# Altium footprint library DIP - LED Display.PcbLib: 44 footprints (part 1 of 3)
Each footprint in its own frame and in the unit in brackets; x right, y up, seen from the top. Pads: shape width x height; smd on the part's side, far side on the other; paste and mask are expansions set on the pad; w line width, h text height; cw(c..) or ccw(c..) is an arc to the next point about the centre after c.
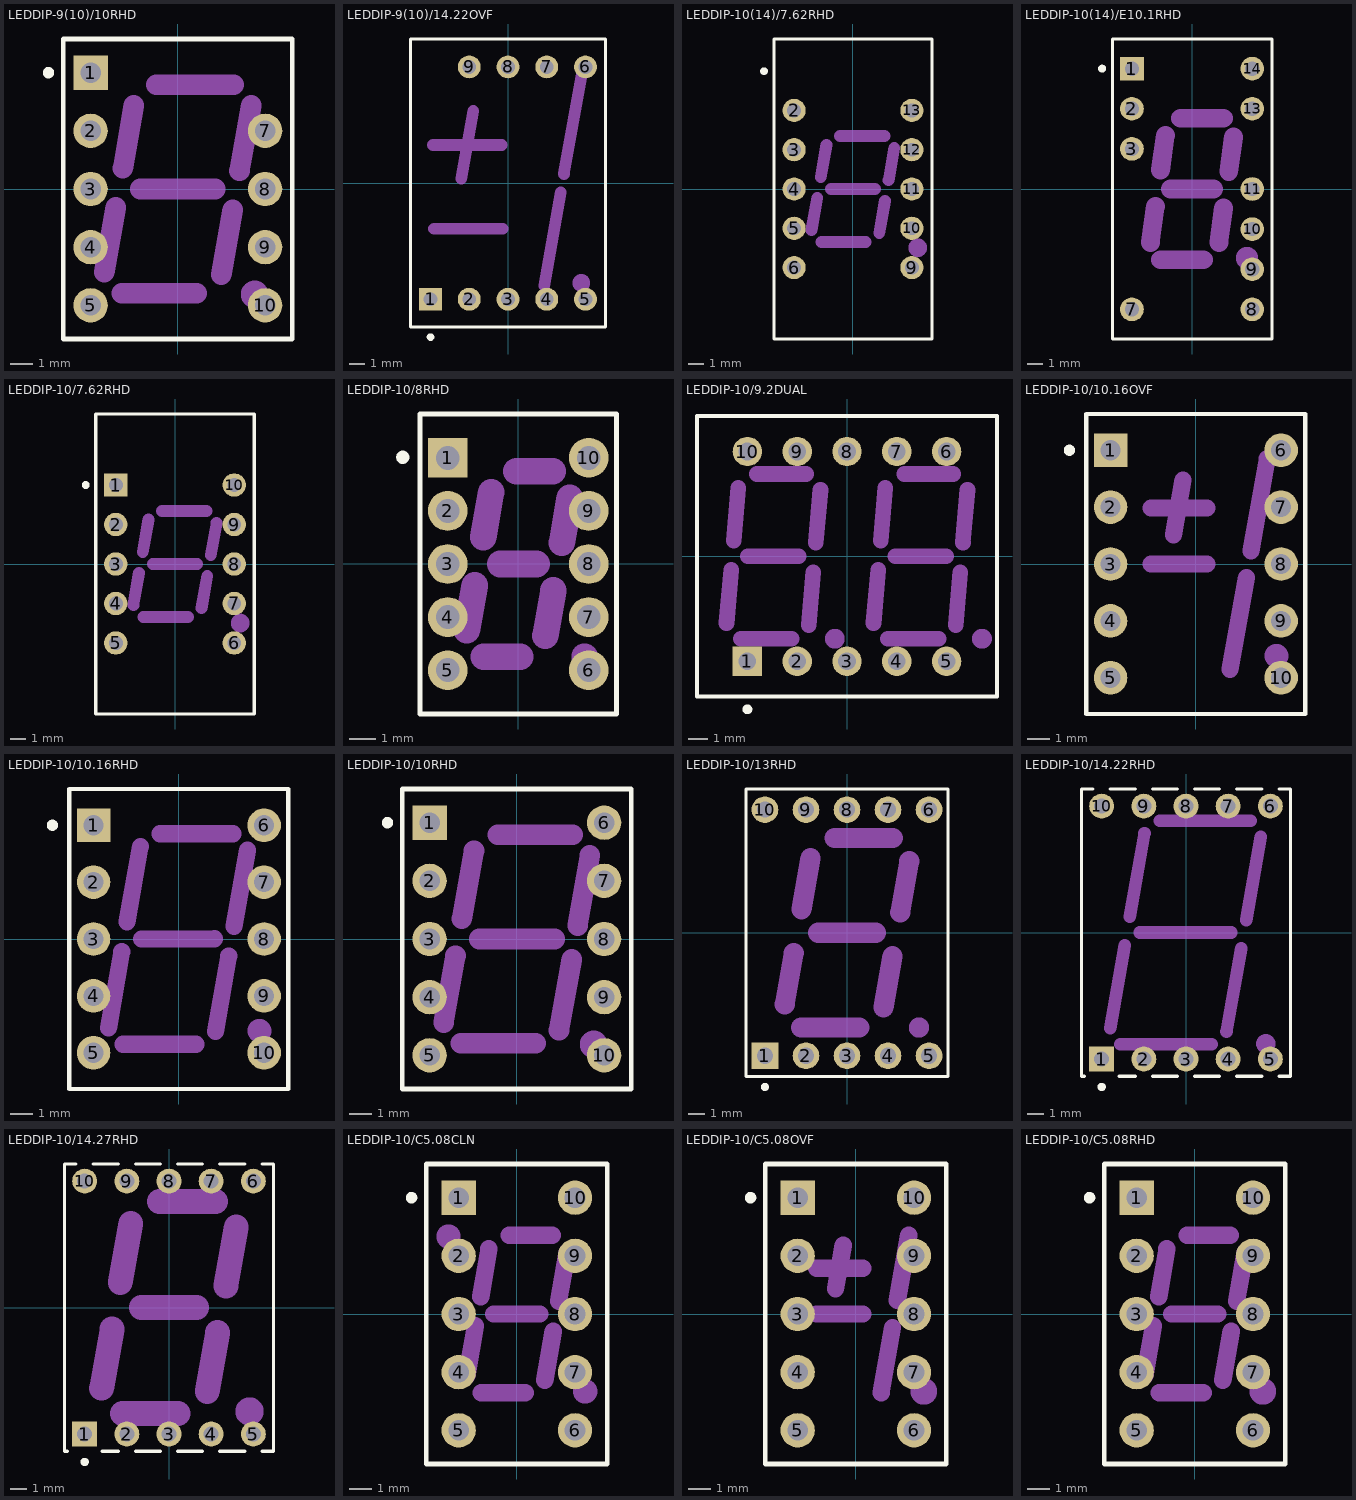
[diagram p0: the footprints below, top view; thin cyan lines are the x and y axes]

## LEDDIP-9(10)/10RHD [mm] "LED, 7-Segment Display, 10 mm, RHD; 10 Leads (1 Absent); Row Space 7.62 mm; Pitch 2.54 mm"
height 7.25
pads (9):
  rect 1.5x1.5 hole 0.9: 1(-3.81,5.08)
  round 1.5 hole 0.9: 2(-3.81,2.54) 3(-3.81,0) 4(-3.81,-2.54) 5(-3.81,-5.08) 7(3.81,2.54) 8(3.81,0) 9(3.81,-2.54) 10(3.81,-5.08)
Top Overlay:
  circle w0.25: c-5.65,5.08 r0.125
  lines w0.2: -5,-6.55 -5,6.55 5,6.55 5,-6.55 -5,-6.55
Mechanical 1:
  circle w0.86: c3.35,-4.6 r0.17
  lines w0.9: -3.21,-3.64 -2.71,-0.8 ; -2.45,-4.55 0.83,-4.55 ; -2.4,0.9 -1.92,3.65 ; -1.65,0 1.63,0 ; -0.95,4.55 2.44,4.55 ; 1.89,-3.75 2.4,-0.9 ; 2.69,0.8 3.2,3.65

## LEDDIP-9(10)/14.22OVF [mm] "LED, Universal ±1 Overflow, 14.22 mm, RHD; 10 Leads (1 Absent); Row Space 15.24 mm; Pitch 2.54 mm"
height 8.25
pads (9):
  rect 1.5x1.5 hole 0.9: 1(-5.08,-7.62)
  round 1.5 hole 0.9: 2(-2.54,-7.62) 3(0,-7.62) 4(2.54,-7.62) 5(5.08,-7.62) 6(5.08,7.62) 7(2.54,7.62) 8(0,7.62) 9(-2.54,7.62)
Top Overlay:
  circle w0.25: c-5.08,-10.1 r0.125
  lines w0.2: -6.4,-9.45 6.4,-9.45 6.4,9.45 -6.4,9.45 -6.4,-9.45
Mechanical 1:
  circle w0.86: c4.81,-6.55 r0.15
  lines w0.762: -4.92,2.5 -0.42,2.5 ; -4.85,-3 -0.35,-3 ; -3.063,0.289 -2.28,4.73 ; 2.38,-6.73 3.46,-0.6 ; 3.67,0.6 4.86,7.31

## LEDDIP-10(14)/7.62RHD [mm] "LED, 7-Segment Display, 7.62 mm, RHD; 14 Leads (4 Absent); Row Space 7.62 mm; Pitch 2.54 mm"
height 6.35
pads (10):
  round 1.5 hole 0.9: 2(-3.81,5.08) 3(-3.81,2.54) 4(-3.81,0) 5(-3.81,-2.54) 6(-3.81,-5.08) 9(3.81,-5.08) 10(3.81,-2.54) 11(3.81,0) 12(3.81,2.54) 13(3.81,5.08)
Top Overlay:
  circle w0.25: c-5.75,7.62 r0.125
  lines w0.2: -5.1,-9.7 5.1,-9.7 5.1,9.7 -5.1,9.7 -5.1,-9.7
Mechanical 1:
  circle w0.86: c4.19,-3.8 r0.17
  lines w0.762: -2.681,-2.652 -2.316,-0.564 ; -2.078,0.763 -1.71,2.857 ; -2.04,-3.419 0.824,-3.419 ; -1.43,0 1.43,0 ; -0.837,3.419 2.029,3.419 ; 1.699,-2.85 2.071,-0.764 ; 2.303,0.565 2.675,2.657

## LEDDIP-10(14)/E10.1RHD [mm] "LED, 7-Segment Display, 10.16 mm, RHD; 14 Leads (4 Absent); Row Space 7.62 mm; Pitch 2.54 mm"
height 5.36
pads (10):
  rect 1.5x1.5 hole 0.9: 1(-3.81,7.62)
  round 1.5 hole 0.9: 2(-3.81,5.08) 3(-3.81,2.54) 7(-3.81,-7.62) 8(3.81,-7.62) 9(3.81,-5.08) 10(3.81,-2.54) 11(3.81,0) 13(3.81,5.08) 14(3.81,7.62)
Top Overlay:
  circle w0.25: c-5.7,7.62 r0.125
  lines w0.2: -5.05,-9.5 5.05,-9.5 5.05,9.5 -5.05,9.5 -5.05,-9.5
Mechanical 1:
  circle w1: c3.47,-4.373 r0.2
  lines w1.2: -2.647,-3.381 -2.328,-1.099 ; -2.002,1.2 -1.696,3.38 ; -1.992,-4.48 0.733,-4.48 ; -1.361,0 1.361,0 ; -0.731,4.48 1.993,4.48 ; 1.69,-3.38 1.99,-1.2 ; 2.32,1.1 2.62,3.28

## LEDDIP-10/7.62RHD [mm] "LED, 7-Segment Display, 7.62 mm, RHD; 10 Leads; Row Space 7.62 mm; Pitch 2.54 mm"
height 6.35
pads (10):
  rect 1.5x1.5 hole 0.9: 1(-3.81,5.08)
  round 1.5 hole 0.9: 2(-3.81,2.54) 3(-3.81,0) 4(-3.81,-2.54) 5(-3.81,-5.08) 6(3.81,-5.08) 7(3.81,-2.54) 8(3.81,0) 9(3.81,2.54) 10(3.81,5.08)
Top Overlay:
  circle w0.25: c-5.75,5.08 r0.125
  lines w0.2: -5.1,-9.65 -5.1,9.65 5.1,9.65 5.1,-9.65 -5.1,-9.65
Mechanical 1:
  circle w0.86: c4.19,-3.8 r0.17
  lines w0.762: -2.681,-2.652 -2.316,-0.564 ; -2.078,0.763 -1.71,2.857 ; -2.04,-3.419 0.824,-3.419 ; -1.43,0 1.43,0 ; -0.837,3.419 2.029,3.419 ; 1.699,-2.85 2.071,-0.764 ; 2.303,0.565 2.675,2.657

## LEDDIP-10/8RHD [mm] "LED, 7-Segment Display, 8 mm, RHD; 10 Leads; Row Space 5.31 mm; Pitch 2.01 mm"
height 5.26
pads (10):
  rect 1.5x1.5 hole 0.9: 1(-2.655,4)
  round 1.5 hole 0.9: 2(-2.655,2) 3(-2.655,0) 4(-2.655,-2) 5(-2.655,-4) 6(2.655,-4) 7(2.655,-2) 8(2.655,0) 9(2.655,2) 10(2.655,4)
Top Overlay:
  circle w0.25: c-4.35,4.02 r0.125
  lines w0.2: -3.7,-5.65 3.7,-5.65 3.7,5.65 -0.635,5.65 -3.7,5.65 -3.7,-5.65
Mechanical 1:
  circle w0.75: c2.5,-3.5 r0.13
  lines w1: -1.939,-2.497 -1.642,-0.801 ; -1.322,1.002 -1.024,2.699 ; -1.302,-3.5 0.066,-3.5 ; -0.685,0 0.686,0 ; -0.067,3.5 1.303,3.5 ; 1.024,-2.699 1.324,-0.999 ; 1.641,0.802 1.938,2.5

## LEDDIP-10/9.2DUAL [mm] "LED, 7-Segment Display, 9.2 mm, Dual Digit; 10 Leads; Row Space 10.7 mm; Pitch 2.54 mm"
height 7.35
pads (10):
  rect 1.5x1.5 hole 0.9: 1(-5.08,-5.35)
  round 1.5 hole 0.9: 2(-2.54,-5.35) 3(0,-5.35) 4(2.54,-5.35) 5(5.08,-5.35) 6(5.08,5.35) 7(2.54,5.35) 8(0,5.35) 9(-2.54,5.35) 10(-5.08,5.35)
Top Overlay:
  circle w0.25: c-5.08,-7.8 r0.125
  lines w0.2: -7.65,-7.15 7.65,-7.15 7.65,7.15 -7.65,7.15 -7.65,-0.635 -7.65,-7.15
Mechanical 1:
  circle w0.75: c6.88,-4.2 r0.13
  circle w0.75: c-0.62,-4.2 r0.13
  lines w0.8: -6.148,-3.402 -5.911,-0.695 ; -5.782,0.801 -5.544,3.496 ; -5.414,-4.2 -2.822,-4.2 ; -5.045,0 -2.455,0 ; -4.587,4.2 -2.086,4.2 ; -1.957,-3.496 -1.72,-0.802 ; -1.588,0.702 -1.353,3.399 ; 1.352,-3.402 1.589,-0.695 ; 1.718,0.801 1.956,3.496 ; 2.086,-4.2 4.678,-4.2 ; 2.455,0 5.045,0 ; 2.913,4.2 5.414,4.2 ; 5.543,-3.496 5.78,-0.802 ; 5.912,0.702 6.147,3.399

## LEDDIP-10/10.16OVF [mm] "LED, Universal ±1 Overflow, 10.16 mm, RHD; 10 Leads; Row Space 7.62 mm; Pitch 2.54 mm"
height 6.34
pads (10):
  rect 1.5x1.5 hole 0.9: 1(-3.81,5.08)
  round 1.5 hole 0.9: 2(-3.81,2.54) 3(-3.81,0) 4(-3.81,-2.54) 5(-3.81,-5.08) 6(3.81,5.08) 7(3.81,2.54) 8(3.81,0) 9(3.81,-2.54) 10(3.81,-5.08)
Top Overlay:
  circle w0.25: c-5.65,5.08 r0.125
  lines w0.2: -4.895,-6.7 -4.895,6.7 4.895,6.7 4.895,-6.7 -4.895,-6.7
Mechanical 1:
  circle w0.86: c3.6,-4.1 r0.1
  lines w0.762: -2,0 0.5,0 ; -2,2.5 0.5,2.5 ; -1,1.3 -0.57,3.76 ; 1.53,-4.7 2.26,-0.6 ; 2.46,0.59 3.19,4.7

## LEDDIP-10/10.16RHD [mm] "LED, 7-Segment Display, 10.16 mm, RHD; 10 Leads; Row Space 7.62 mm; Pitch 2.54 mm"
height 6.34
pads (10):
  rect 1.5x1.5 hole 0.9: 1(-3.81,5.08)
  round 1.5 hole 0.9: 2(-3.81,2.54) 3(-3.81,0) 4(-3.81,-2.54) 5(-3.81,-5.08) 6(3.81,5.08) 7(3.81,2.54) 8(3.81,0) 9(3.81,-2.54) 10(3.81,-5.08)
Top Overlay:
  circle w0.25: c-5.65,5.08 r0.125
  lines w0.2: -4.895,-6.7 4.895,-6.7 4.895,6.7 -4.895,6.7 -4.895,-6.7
Mechanical 1:
  circle w0.86: c3.6,-4.1 r0.1
  lines w0.762: -3.14,-3.98 -2.55,-0.57 ; -2.5,-4.7 0.77,-4.7 ; -2.31,0.77 -1.72,4.13 ; -1.67,0 1.6,0.01 ; -0.84,4.7 2.42,4.7 ; 1.64,-4.13 2.23,-0.75 ; 2.47,0.57 3.07,3.97

## LEDDIP-10/10RHD [mm] "LED, 7-Segment Display, 10 mm, RHD; 10 Leads; Row Space 7.62 mm; Pitch 2.54 mm"
height 7.25
pads (10):
  rect 1.5x1.5 hole 0.9: 1(-3.81,5.08)
  round 1.5 hole 0.9: 2(-3.81,2.54) 3(-3.81,0) 4(-3.81,-2.54) 5(-3.81,-5.08) 6(3.81,5.08) 7(3.81,2.54) 8(3.81,0) 9(3.81,-2.54) 10(3.81,-5.08)
Top Overlay:
  circle w0.25: c-5.65,5.08 r0.125
  lines w0.2: -5,-6.55 5,-6.55 5,6.55 -5,6.55 -5,-6.55
Mechanical 1:
  circle w0.86: c3.35,-4.6 r0.17
  lines w0.9: -3.2,-3.65 -2.68,-0.73 ; -2.44,-4.55 0.83,-4.55 ; -2.4,0.89 -1.87,3.86 ; -1.65,0 1.65,0 ; -0.83,4.55 2.44,4.55 ; 1.84,-3.98 2.39,-0.89 ; 2.65,0.58 3.19,3.66

## LEDDIP-10/13RHD [mm] "LED, 7-Segment Display, 13 mm, RHD; 10 Leads; Row Space 15.24 mm; Pitch 2.54 mm"
height 7.25
pads (10):
  rect 1.65x1.65 hole 1: 1(-5.08,-7.62)
  round 1.65 hole 1: 2(-2.54,-7.62) 3(0,-7.62) 4(2.54,-7.62) 5(5.08,-7.62) 6(5.08,7.62) 7(2.54,7.62) 8(0,7.62) 9(-2.54,7.62) 10(-5.08,7.62)
Top Overlay:
  circle w0.25: c-5.08,-9.55 r0.125
  lines w0.2: -6.25,-8.9 -6.25,8.9 6.25,8.9 6.25,-8.9 -6.25,-8.9
Mechanical 1:
  circle w0.85: c4.455,-5.872 r0.2
  lines w1.25: -3.857,-4.427 -3.295,-1.251 ; -2.84,-5.875 0.756,-5.875 ; -2.818,1.449 -2.257,4.627 ; -1.802,0 1.802,0 ; -0.767,5.875 2.837,5.875 ; 2.26,-4.624 2.818,-1.45 ; 3.295,1.25 3.854,4.424

## LEDDIP-10/14.22RHD [mm] "LED, 7-Segment Display, 14.22 mm, RHD; 10 Leads; Row Space 15.24 mm; Pitch 2.54 mm"
height 8.25
pads (10):
  rect 1.5x1.5 hole 0.9: 1(-5.08,-7.62)
  round 1.5 hole 0.9: 2(-2.54,-7.62) 3(0,-7.62) 4(2.54,-7.62) 5(5.08,-7.62) 6(5.08,7.62) 7(2.54,7.62) 8(0,7.62) 9(-2.54,7.62) 10(-5.08,7.62)
Top Overlay:
  circle w0.25: c-5.08,-9.3 r0.125
  lines w0.2: -6.12,-8.65 -6.3,-8.65 -6.3,8.65 -5.6,8.65 ; -4.56,8.65 -3.06,8.65 ; -4.04,-8.65 -3.06,-8.65 ; -2.02,-8.65 -0.52,-8.65 ; -2.02,8.65 -0.52,8.65 ; 0.52,-8.65 2.02,-8.65 ; 0.52,8.65 2.02,8.65 ; 3.06,-8.65 4.56,-8.65 ; 3.06,8.65 4.56,8.65 ; 5.6,-8.65 6.3,-8.65 6.3,8.65 5.6,8.65
Mechanical 1:
  circle w0.86: c4.81,-6.7 r0.15
  lines w0.762: -4.57,-5.76 -3.69,-0.77 ; -3.97,-6.729 1.54,-6.729 ; -3.386,0.961 -2.5,5.98 ; -2.78,0 2.72,0 ; -1.58,6.729 3.91,6.729 ; 2.44,-5.96 3.32,-0.96 ; 3.63,0.76 4.51,5.78

## LEDDIP-10/14.27RHD [mm] "LED, 7-Segment Display, 14.27 mm, RHD; 10 Leads; Row Space 15.24 mm; Pitch 2.54 mm"
height 8.3
pads (10):
  rect 1.5x1.5 hole 0.9: 1(-5.08,-7.62)
  round 1.5 hole 0.9: 2(-2.54,-7.62) 3(0,-7.62) 4(2.54,-7.62) 5(5.08,-7.62) 6(5.08,7.62) 7(2.54,7.62) 8(0,7.62) 9(-2.54,7.62) 10(-5.08,7.62)
Top Overlay:
  circle w0.25: c-5.08,-9.3 r0.125
  lines w0.2: -6.12,-8.65 -6.3,-8.65 -6.3,8.65 -5.6,8.65 ; -4.56,8.65 -3.06,8.65 ; -4.04,-8.65 -3.06,-8.65 ; -2.02,-8.65 -0.52,-8.65 ; -2.02,8.65 -0.52,8.65 ; 0.52,-8.65 2.02,-8.65 ; 0.52,8.65 2.02,8.65 ; 3.06,-8.65 4.56,-8.65 ; 3.06,8.65 4.56,8.65 ; 5.6,-8.65 6.3,-8.65 6.3,8.65 5.6,8.65
Mechanical 1:
  circle w1.1: c4.85,-6.258 r0.3
  lines w1.5: -4.055,-4.86 -3.429,-1.303 ; -2.934,1.506 -2.307,5.056 ; -2.805,-6.385 0.545,-6.385 ; -1.674,0 1.674,0 ; -0.564,6.385 2.796,6.385 ; 2.307,-5.057 2.933,-1.498 ; 3.427,1.303 4.054,4.857

## LEDDIP-10/C5.08CLN [mm] "LED, 7-Segment Display, 7.62 mm, RHD, Colon; 10 Leads; Row Space 5.08 mm; Pitch 2.54 mm"
height 6.34
pads (10):
  rect 1.5x1.5 hole 0.9: 1(-2.54,5.08)
  round 1.5 hole 0.9: 2(-2.54,2.54) 3(-2.54,0) 4(-2.54,-2.54) 5(-2.54,-5.08) 6(2.54,-5.08) 7(2.54,-2.54) 8(2.54,0) 9(2.54,2.54) 10(2.54,5.08)
Top Overlay:
  circle w0.25: c-4.6,5.08 r0.125
  lines w0.2: -3.95,-6.55 3.95,-6.55 3.95,6.55 -3.95,6.55 -3.95,-6.55
Mechanical 1:
  circle w0.86: c2.985,-3.38 r0.1
  circle w0.86: c-2.985,3.38 r0.1
  lines w0.762: -2.19,-2.69 -1.81,-0.52 ; -1.58,0.76 -1.22,2.84 ; -1.56,-3.43 0.36,-3.43 ; -1.004,0 1.004,0 ; -0.34,3.43 1.55,3.43 ; 1.22,-2.89 1.59,-0.76 ; 1.82,0.56 2.2,2.69

## LEDDIP-10/C5.08OVF [mm] "LED, Universal ±1 Overflow, 7.62 mm, RHD; 10 Leads; Row Space 5.08 mm; Pitch 2.54 mm"
height 6.34
pads (10):
  rect 1.5x1.5 hole 0.9: 1(-2.54,5.08)
  round 1.5 hole 0.9: 2(-2.54,2.54) 3(-2.54,0) 4(-2.54,-2.54) 5(-2.54,-5.08) 6(2.54,-5.08) 7(2.54,-2.54) 8(2.54,0) 9(2.54,2.54) 10(2.54,5.08)
Top Overlay:
  circle w0.25: c-4.6,5.08 r0.125
  lines w0.2: -3.95,-6.55 -3.95,6.55 3.95,6.55 3.95,-6.55 -3.95,-6.55
Mechanical 1:
  circle w0.86: c2.97,-3.38 r0.15
  lines w0.762: -1.7,0 0.3,0 ; -1.7,2 0.3,2 ; -0.89,1.1 -0.55,3.01 ; 1.1,-3.43 1.6,-0.59 ; 1.81,0.59 2.31,3.43

## LEDDIP-10/C5.08RHD [mm] "LED, 7-Segment Display, 7.62 mm, RHD; 10 Leads; Row Space 5.08 mm; Pitch 2.54 mm"
height 6.34
pads (10):
  rect 1.5x1.5 hole 0.9: 1(-2.54,5.08)
  round 1.5 hole 0.9: 2(-2.54,2.54) 3(-2.54,0) 4(-2.54,-2.54) 5(-2.54,-5.08) 6(2.54,-5.08) 7(2.54,-2.54) 8(2.54,0) 9(2.54,2.54) 10(2.54,5.08)
Top Overlay:
  circle w0.25: c-4.6,5.08 r0.125
  lines w0.2: -3.95,-6.55 -3.95,6.55 3.95,6.55 3.95,-6.55 -3.95,-6.55
Mechanical 1:
  circle w0.86: c2.97,-3.38 r0.15
  lines w0.762: -2.19,-2.69 -1.81,-0.52 ; -1.58,0.76 -1.22,2.84 ; -1.56,-3.43 0.36,-3.43 ; -1.004,0 1.004,0 ; -0.34,3.43 1.55,3.43 ; 1.22,-2.89 1.59,-0.76 ; 1.82,0.56 2.2,2.69